# Altium footprint library ThroughHole.PcbLib: 9 footprints
Each footprint in its own frame and in the unit in brackets; x right, y up, seen from the top. Pads: shape width x height; smd on the part's side, far side on the other; paste and mask are expansions set on the pad; w line width, h text height; cw(c..) or ccw(c..) is an arc to the next point about the centre after c.
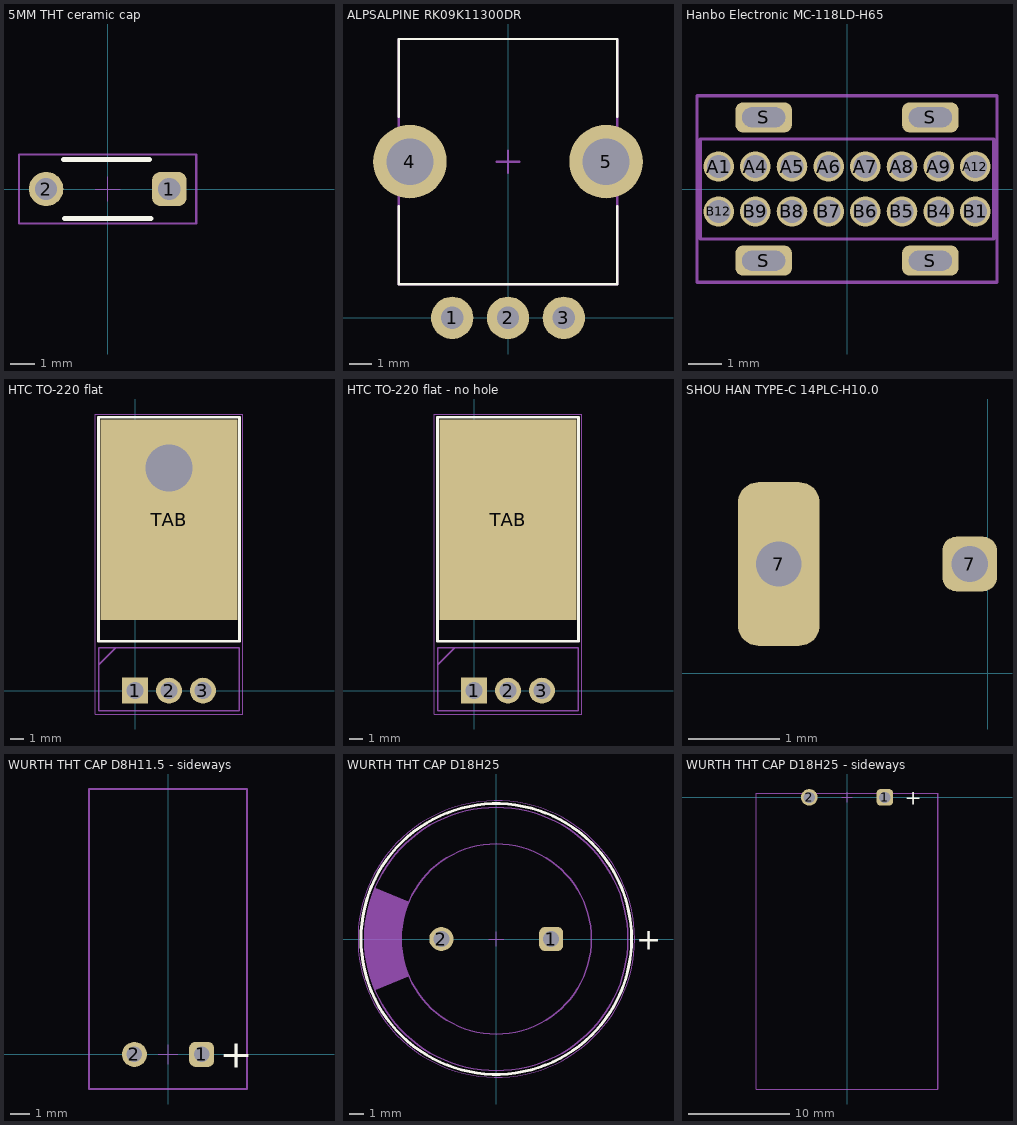
[diagram p0: the footprints below, top view; thin cyan lines are the x and y axes]

## 5MM THT ceramic cap [mm]
pads (2):
  rrect50% 1.4x1.4 hole 0.9: 1(2.5,0)
  round 1.4 hole 0.9: 2(-2.5,0)
Top Overlay:
  lines w0.2: -1.8,1.2 1.7,1.2 ; -1.75,-1.2 1.75,-1.2
Top Designator:
  text ".Designator" at -5.498,-0.367 h1.1
Top Courtyard:
  lines w0.1: -3.6,-1.4 3.6,-1.4 3.6,1.4 -3.6,1.4 -3.6,-1.4
Top Component Center:
  lines w0.05: -0.5,0 0.5,0 ; 0,-0.5 0,0.5
3D body "Ceramic Cap, 5mm lead spacing, 4mm width, and 5.5mm tall, v4 v2.step": height 5.3, standoff -2, extent -2.825,-1.238 2.825,1.215

## ALPSALPINE RK09K11300DR [mm] "10k vertical potentiometer"
pads (5):
  round 1.9 hole 1: 1(-2.5,0) 2(0,0) 3(2.5,0)
  round 3.3 hole 2.1: 4(-4.4,7) 5(4.4,7)
Top Overlay:
  lines w0.1: -4.9,5 -4.9,1.5 4.9,1.5 4.9,5 ; -4.9,9 -4.9,12.5 4.9,12.5 4.9,9
Top Designator:
  text ".Designator" at -4.998,6.667 h1
Top 3D Body:
  lines w0.1: -4.9,1.5 4.9,1.5 ; -4.9,1.5 4.9,1.5 ; -4.9,1.5 -4.9,5.2 -4.9,8.7 -4.9,12.5 4.9,12.5 4.9,8.8 4.9,5.1 4.9,1.5
Top Courtyard:
  lines w0.1: -4.9,1.5 4.9,1.5 ; -4.9,1.5 4.9,1.5 ; -4.9,1.5 -4.9,5.2 -4.9,8.7 -4.9,12.5 4.9,12.5 4.9,8.8 4.9,5.1 4.9,1.5
Top Component Center:
  lines w0.1: -0.5,7 0.5,7 ; 0,6.5 0,7.5

## Hanbo Electronic MC-118LD-H65 [mm]
height 6.5
pads (20):
  oval 0.92x0.9 hole 0.7 mask+0.1: A1(-3.85,0.675) A4(-2.75,0.675) A5(-1.65,0.675) A6(-0.55,0.675) A7(0.55,0.675) A8(1.65,0.675) A9(2.75,0.675) A12(3.85,0.675) B1(3.85,-0.675) B4(2.75,-0.675) B5(1.65,-0.675) B6(0.55,-0.675) B7(-0.55,-0.675) B8(-1.65,-0.675) B9(-2.75,-0.675) B12(-3.85,-0.675)
  rrect50% 1.7x0.9 hole 0.6 slot 1.3 at 0 deg mask+0.1: S(-2.5,-2.15) S(-2.5,2.15) S(2.5,-2.15) S(2.5,2.15)
Top 3D Body:
  lines w0.1: -4.4,-1.5 4.4,-1.5 4.4,1.5 -4.4,1.5 -4.4,-1.5
Top Courtyard:
  lines w0.1: -4.5,-2.8 4.5,-2.8 4.5,2.8 -4.5,2.8 -4.5,-2.8

## HTC TO-220 flat [mm]
pads (5):
  rect 1.935x1.935 hole 1.29: 1(0,0)
  round 1.935 hole 1.29: 2(2.54,0) 3(5.08,0)
  round 0 hole 3.5 unplated: 5(2.54,16.66)
  rect 10.24x15 smd: TAB(2.54,12.8)
Top Overlay:
  lines w0.2: -2.73,3.69 -2.73,20.464 7.81,20.464 7.81,3.69 -2.73,3.69
Top 3D Body:
  lines w0.1: -2.73,1.93 -1.46,3.2 ; -2.73,-1.5 7.81,-1.5 7.81,3.2 -2.73,3.2 -2.73,-1.5
Top Courtyard:
  lines w0.05: -2.98,-1.75 8.06,-1.75 8.06,20.701 -2.98,20.701 -2.98,-1.75
3D body "TO-220-3_Horizontal_TabDown (1).step": height 4.44, standoff -6.33, extent -2.585,-0.262 7.665,19.475

## HTC TO-220 flat - no hole [mm]
pads (4):
  rect 1.935x1.935 hole 1.29: 1(0,0)
  round 1.935 hole 1.29: 2(2.54,0) 3(5.08,0)
  rect 10.24x15 smd: TAB(2.54,12.8)
Top Overlay:
  lines w0.2: -2.73,3.69 -2.73,20.464 7.81,20.464 7.81,3.69 -2.73,3.69
Top 3D Body:
  lines w0.1: -2.73,1.93 -1.46,3.2 ; -2.73,-1.5 7.81,-1.5 7.81,3.2 -2.73,3.2 -2.73,-1.5
Top Courtyard:
  lines w0.05: -2.98,-1.75 8.06,-1.75 8.06,20.701 -2.98,20.701 -2.98,-1.75
3D body "TO-220-3_Horizontal_TabDown (1).step": height 4.44, standoff -6.33, extent -2.585,-0.262 7.665,19.475

## SHOU HAN TYPE-C 14PLC-H10.0 [mm]
pads (2):
  rrect50% 0.9x1.8 hole 0.5 square: 7(-2.3,1.2)
  rrect50% 0.6x0.6 hole 0.4 square: 7(-0.2,1.2)

## WURTH THT CAP D8H11.5 - sideways [mm] "Aluminum Electrolytic Capacitors, 8x11.5mm"
height 11.5
pads (2):
  rrect50% 1.3x1.3 hole 0.8: 1(1.75,0)
  round 1.3 hole 0.8: 2(-1.75,0)
Top Overlay:
  text "+" at 2.7,-0.7 h1.5
Top Designator:
  text ".Designator" at -7.798,1.4 h1.5
Top Courtyard:
  lines w0.05: -0.5,0 0.5,0 ; 0,-0.5 0,0.5
  lines w0.1: -4.1,-1.8 4.1,-1.8 4.1,13.8 -4.1,13.8 -4.1,-1.8
3D body "Download_STP_860080x740xx (rev1) plat.step": height 8, standoff -14.25, extent -3.992,-0.229 3.992,13.77

## WURTH THT CAP D18H25 [mm] "Aluminum Electrolytic Capacitors, 18x25mm"
height 25
pads (2):
  rrect50% 1.65x1.65 hole 1.1: 1(3.75,0)
  round 1.65 hole 1.1: 2(-3.75,0)
Top Overlay:
  circle w0.2: c0,0 r9.25
  text "+" at 9.55,-0.75 h1.5
Top Designator:
  text ".Designator" at -7.498,-0.5 h1.5
Top Component Outline:
  circle w0.1: c0,0 r9
  circle w0.1: c0,0 r6.5
  region: -8.291,-3.501 -5.985,-2.536 -5.986,-2.533 -6.105,-2.23 -6.298,-1.609 -6.427,-0.972 -6.492,-0.325 -6.492,0.325 -6.427,0.972 -6.298,1.609 -6.105,2.23 -5.986,2.533 -5.985,2.536 -8.291,3.501 -8.466,3.086 -8.732,2.227 -8.91,1.345 -9,0.45 -9,-0.45 -8.91,-1.345 -8.732,-2.227 -8.466,-3.086
Top Courtyard:
  circle w0.05: c0,0 r9.45
Top Component Center:
  lines w0.05: -0.5,0 0.5,0 ; 0,-0.5 0,0.5
3D body "18x25x7.5x0.8.stp": height 25.31, standoff -19.91, extent -8.99,-9 9,9

## WURTH THT CAP D18H25 - sideways [mm] "Aluminum Electrolytic Capacitors, 18x25mm"
height 25
pads (2):
  rrect50% 1.65x1.65 hole 1.1: 1(3.75,0)
  round 1.65 hole 1.1: 2(-3.75,0)
Top Overlay:
  text "+" at 5.715,-0.762 h1.5
Top Designator:
  text ".Designator" at -7.498,-0.5 h1.5
Top Component Outline:
  lines w0.1: -9.017,-28.956 9.017,-28.956 9.017,0.381 -9.017,0.381 -9.017,-28.956
Top Courtyard:
  lines w0.1: -9.017,-28.956 -9.017,0.381 9.017,0.381 9.017,-28.956 -9.017,-28.956
Top Component Center:
  lines w0.05: -0.5,0 0.5,0 ; 0,-0.5 0,0.5
3D body "wurth cap sideways.step": height 9.41, standoff -15.99, extent -8.995,-28.899 8.995,0.4